# Altium schematic symbol library IC-ESP32.SchLib: 5 symbols
Pins are listed as number, name and electrical type; pins without a type are passive.

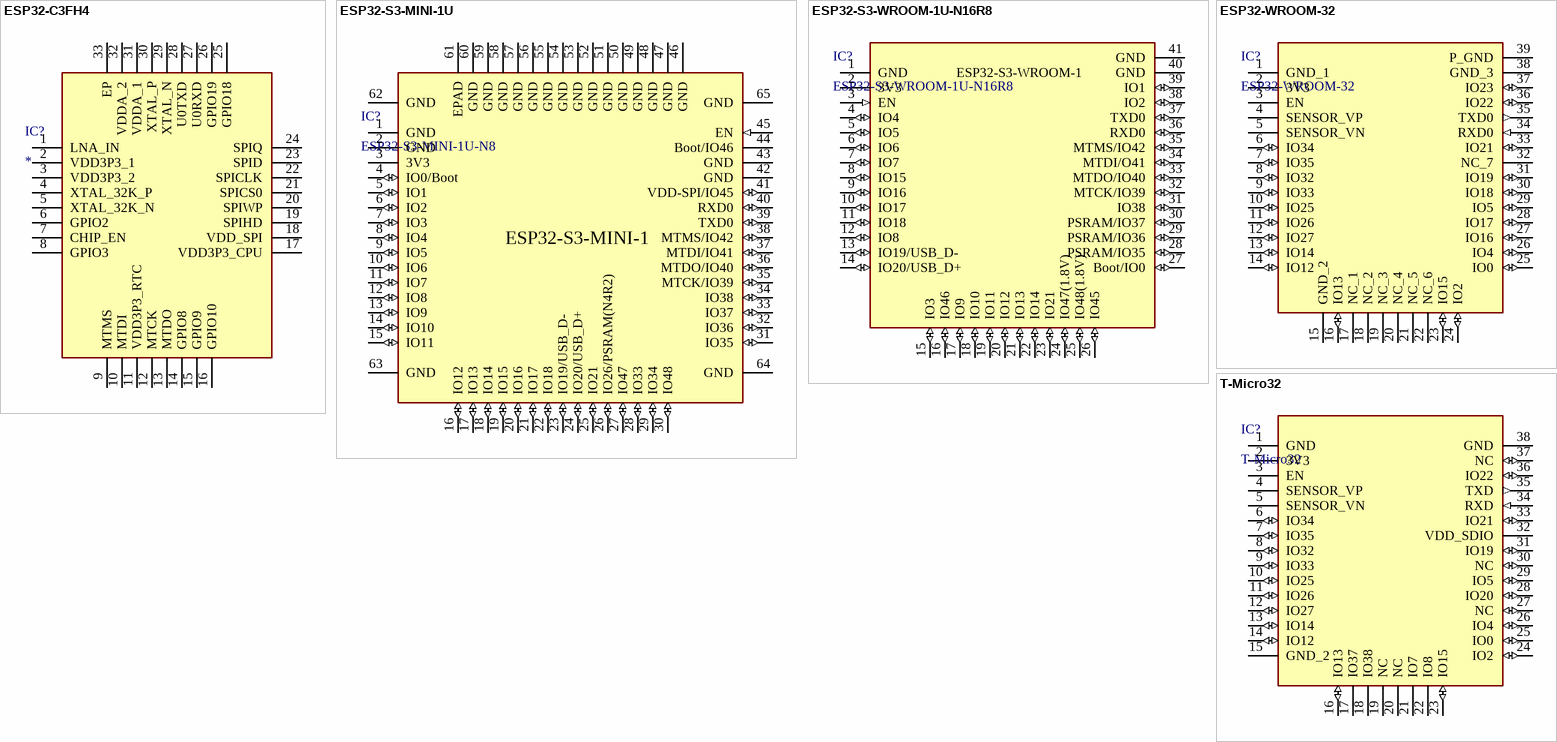
[diagram p0: symbols ESP32-C3FH4 to T-Micro32]

## ESP32-C3FH4
designator IC?
Integrated Circuit; Manufacturer_Name: Espressif Systems; Manufacturer_Part_Number: ESP32-C3FH4; Datasheet Link: https://www.espressif.com/sites/default/files/documentation/esp32-c3_datasheet_en.pdf; Height: 0.9mm; Mouser Part Number: 356-ESP32-C3FH4; Mouser Price/Stock: https://www.mouser.co.uk/ProductDetail/Espressif-Systems/ESP32-C3FH4?qs=iLbezkQI%252BsgL5PSvEueYlQ%3D%3D
footprint QFN32-EP(5x5) (ESP32-C3FH4)
pins: 1 LNA_IN, 2 VDD3P3_1, 3 VDD3P3_2, 4 XTAL_32K_P, 5 XTAL_32K_N, 6 GPIO2, 7 CHIP_EN, 8 GPIO3, 9 MTMS, 10 MTDI, 11 VDD3P3_RTC, 12 MTCK, 13 MTDO, 14 GPIO8, 15 GPIO9, 16 GPIO10, 17 VDD3P3_CPU, 18 VDD_SPI, 19 SPIHD, 20 SPIWP, 21 SPICS0, 22 SPICLK, 23 SPID, 24 SPIQ, 25 GPIO18, 26 GPIO19, 27 U0RXD, 28 U0TXD, 29 XTAL_N, 30 XTAL_P, 31 VDDA_1, 32 VDDA_2, 33 EP

## ESP32-S3-MINI-1U
designator IC?, comment ESP32-S3-MINI-1U-N8
WIFI-蓝牙 MCU模组; Manufacturer_Name: Espressif Systems; Manufacturer_Part_Number: ESP32-S3-MINI-1U-N8
footprint ESP32-S3-MINI-1U
pins: 1 GND, 2 GND, 3 3V3 (power), 4 IO0/Boot (io), 5 IO1 (io), 6 IO2 (io), 7 IO3 (io), 8 IO4 (io), 9 IO5 (io), 10 IO6 (io), 11 IO7 (io), 12 IO8 (io), 13 IO9 (io), 14 IO10 (io), 15 IO11 (io), 16 IO12 (io), 17 IO13 (io), 18 IO14 (io), 19 IO15 (io), 20 IO16 (io), 21 IO17 (io), 22 IO18 (io), 23 IO19/USB_D- (io), 24 IO20/USB_D+ (io), 25 IO21 (io), 26 IO26/PSRAM(N4R2) (io), 27 IO47 (io), 28 IO33 (io), 29 IO34 (io), 30 IO48 (io), 31 IO35 (io), 32 IO36 (io), 33 IO37 (io), 34 IO38 (io), 35 MTCK/IO39 (io), 36 MTDO/IO40 (io), 37 MTDI/IO41 (io), 38 MTMS/IO42 (io), 39 TXD0 (io), 40 RXD0 (io), 41 VDD-SPI/IO45 (io), 42 GND, 43 GND, 44 Boot/IO46, 45 EN (in), 46 GND, 47 GND, 48 GND, 49 GND, 50 GND, 51 GND, 52 GND, 53 GND, 54 GND, 55 GND, 56 GND, 57 GND, 58 GND, 59 GND, 60 GND, 61 EPAD, 62 GND, 63 GND, 64 GND, 65 GND
text: ESP32-S3-MINI-1

## ESP32-S3-WROOM-1U-N16R8
designator IC?
WIFI-蓝牙 MCU模组; Manufacturer_Name: Espressif Systems; Manufacturer_Part_Number: ESP32-S3-WROOM-1U-N16R8; LCSC: C3013946; Parameter 1: *; Parameter 2: *
footprint ESP32S3WROOM1UN16R8
pins: 1 GND, 2 3V3 (power), 3 EN (in), 4 IO4 (io), 5 IO5 (io), 6 IO6 (io), 7 IO7 (io), 8 IO15 (io), 9 IO16 (io), 10 IO17 (io), 11 IO18 (io), 12 IO8 (io), 13 IO19/USB_D- (io), 14 IO20/USB_D+ (io), 15 IO3 (io), 16 IO46 (io), 17 IO9 (io), 18 IO10 (io), 19 IO11 (io), 20 IO12 (io), 21 IO13 (io), 22 IO14 (io), 23 IO21 (io), 24 IO47(1.8V) (io), 25 IO48(1.8V) (io), 26 IO45 (io), 27 Boot/IO0 (io), 28 PSRAM/IO35 (io), 29 PSRAM/IO36 (io), 30 PSRAM/IO37 (io), 31 IO38 (io), 32 MTCK/IO39 (io), 33 MTDO/IO40 (io), 34 MTDI/O41 (io), 35 MTMS/IO42 (io), 36 RXD0 (io), 37 TXD0 (io), 38 IO2 (io), 39 IO1 (io), 40 GND, 41 GND
text: ESP32-S3-WROOM-1

## ESP32-WROOM-32
designator IC?
WIFI-蓝牙 MCU模组; Manufacturer_Name: Espressif Systems; Manufacturer_Part_Number: ESP32-WROOM-32UE-N8
footprint ESP32-WROOM-32UE (SMD 18X19.2MM)
footprint ESP32-WROOM-32E (SMD 18X25.5)
pins: 1 GND_1 (power), 2 3V3 (power), 3 EN, 4 SENSOR_VP, 5 SENSOR_VN, 6 IO34 (io), 7 IO35 (io), 8 IO32 (io), 9 IO33 (io), 10 IO25 (io), 11 IO26 (io), 12 IO27 (io), 13 IO14 (io), 14 IO12 (io), 15 GND_2 (power), 16 IO13 (io), 17 NC_1, 18 NC_2, 19 NC_3, 20 NC_4, 21 NC_5, 22 NC_6, 23 IO15 (io), 24 IO2 (io), 25 IO0 (io), 26 IO4 (io), 27 IO16 (io), 28 IO17 (io), 29 IO5 (io), 30 IO18 (io), 31 IO19 (io), 32 NC_7, 33 IO21 (io), 34 RXD0 (in), 35 TXD0 (out), 36 IO22 (io), 37 IO23 (io), 38 GND_3 (power), 39 P_GND (power)

## T-Micro32
designator IC?
WIFI-蓝牙 MCU模组; Manufacturer_Name: Espressif Systems; Manufacturer_Part_Number: ESP32-WROOM-32UE-N8
footprint T-Micro32 (SMD 13X18.9MM)
pins: 1 GND (power), 2 3V3 (power), 3 EN, 4 SENSOR_VP, 5 SENSOR_VN, 6 IO34 (io), 7 IO35 (io), 8 IO32 (io), 9 IO33 (io), 10 IO25 (io), 11 IO26 (io), 12 IO27 (io), 13 IO14 (io), 14 IO12 (io), 15 GND_2 (power), 16 IO13 (io), 17 IO37, 18 IO38, 19 NC, 20 NC, 21 IO7, 22 IO8, 23 IO15 (io), 24 IO2 (io), 25 IO0 (io), 26 IO4 (io), 27 NC (io), 28 IO20 (io), 29 IO5 (io), 30 NC (io), 31 IO19 (io), 32 VDD_SDIO, 33 IO21 (io), 34 RXD (in), 35 TXD (out), 36 IO22 (io), 37 NC (io), 38 GND (power)